# Altium footprint library balenaPerf pcblib.PcbLib: 5 footprints
Each footprint in its own frame and in the unit in brackets; x right, y up, seen from the top. Pads: shape width x height; smd on the part's side, far side on the other; paste and mask are expansions set on the pad; w line width, h text height; cw(c..) or ccw(c..) is an arc to the next point about the centre after c.
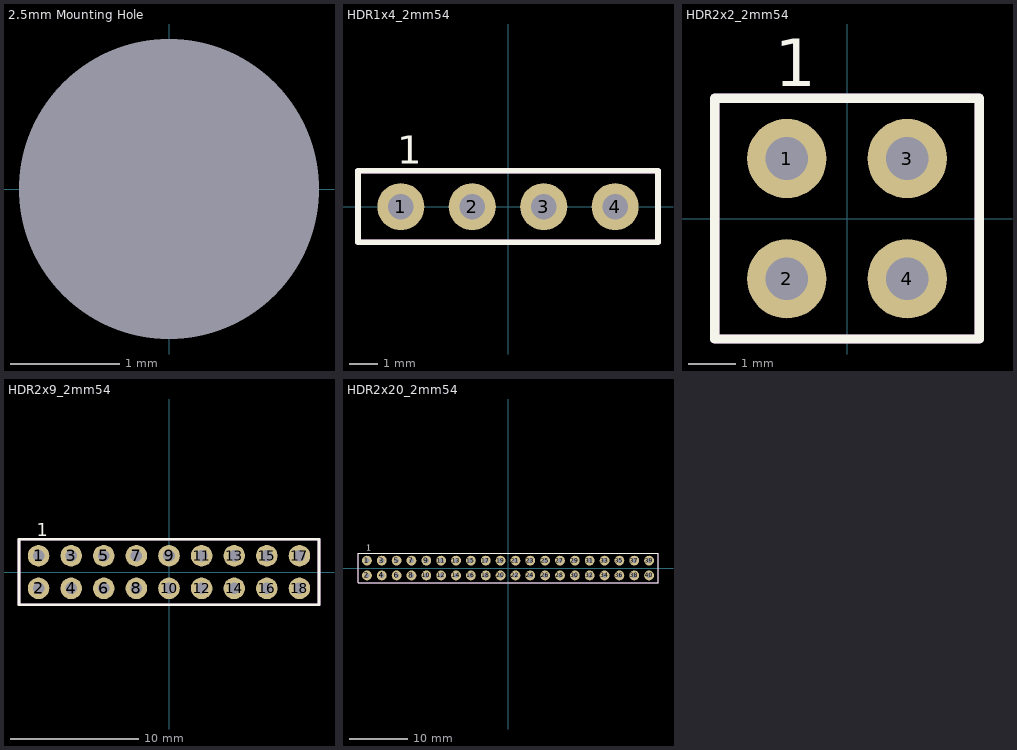
[diagram p0: the footprints below, top view; thin cyan lines are the x and y axes]

## 2.5mm Mounting Hole [mm]
pads (1):
  round 0 hole 2.75 unplated paste+0 mask+3.1: 1(0,0)

## HDR1x4_2mm54 [mil] "Female Header 1x4 pin 2.54mm spacing"
pads (4):
  round 66 hole 35.43: 1(-150,0) 2(-50,0) 3(50,0) 4(150,0)
Top Overlay:
  lines w7.87: -210,-50 -210,50 210,50 210,-50 -210,-50
  text "1" at -155,60 h39.37
Top Courtyard (M15):
  lines w7.87: -210,-50 210,-50 210,50 -210,50 -210,-50
  text ".Designator" at -125,-15 h39.37
3D body "PPPC041LFBN-RC.STEP": height 334.65, standoff -125.98, extent -209.84,-50 209.85,50

## HDR2x2_2mm54 [mil] "Female Header 2x2 pin 2.54mm spacing"
pads (4):
  round 66 hole 35.43: 1(-50,50) 2(-50,-50) 3(50,50) 4(50,-50)
Top Overlay:
  lines w7.87: -110,-100 110,-100 110,100 -110,100 -110,-100
  text "1" at -60,110 h39.37
Top Courtyard (M15):
  lines w7.87: -110,-100 -110,100 110,100 110,-100 -110,-100
  text ".Designator" at -65,-10 h39.37
3D body "PPPC022LFBN-RC.STEP": height 334.65, standoff -125.98, extent -109.84,-100 109.84,100

## HDR2x9_2mm54 [mil] "Female Header 2x9 pin 2.54mm spacing"
pads (18):
  round 66 hole 35.43: 1(-400,50) 2(-400,-50) 3(-300,50) 4(-300,-50) 5(-200,50) 6(-200,-50) 7(-100,50) 8(-100,-50) 9(0,50) 10(0,-50) 11(100,50) 12(100,-50) 13(200,50) 14(200,-50) 15(300,50) 16(300,-50) 17(400,50) 18(400,-50)
Top Overlay:
  lines w7.87: -460,-100 460,-100 460,100 -460,100 -460,-100
  text "1" at -405,110 h39.37
Top Courtyard (M15):
  lines w7.87: -460,-100 -460,100 460,100 460,-100 -460,-100
  text ".Designator" at -75,-10 h39.37
3D body "PPPC092LFBN-RC.STEP": height 334.65, standoff -125.98, extent -459.84,-100 459.84,100

## HDR2x20_2mm54 [mil] "Female Header 2x20 pin 2.54mm spacing"
pads (40):
  round 66 hole 35.43: 1(-950,50) 2(-950,-50) 3(-850,50) 4(-850,-50) 5(-750,50) 6(-750,-50) 7(-650,50) 8(-650,-50) 9(-550,50) 10(-550,-50) 11(-450,50) 12(-450,-50) 13(-350,50) 14(-350,-50) 15(-250,50) 16(-250,-50) 17(-150,50) 18(-150,-50) 19(-50,50) 20(-50,-50) 21(50,50) 22(50,-50) 23(150,50) 24(150,-50) 25(250,50) 26(250,-50) 27(350,50) 28(350,-50) 29(450,50) 30(450,-50) 31(550,50) 32(550,-50) 33(650,50) 34(650,-50) 35(750,50) 36(750,-50) 37(850,50) 38(850,-50) 39(950,50) 40(950,-50)
Top Overlay:
  lines w7.87: -1010,-100 -1010,100 1010,100 1010,-100 -1010,-100
  text "1" at -955,115 h39.37
Top Courtyard (M15):
  lines w7.87: -1010,-100 1010,-100 1010,100 -1010,100 -1010,-100
  text ".Designator" at -70,-10 h39.37
3D body "PPPC202LFBN-RC.STEP": height 334.65, standoff -125.98, extent -1009.84,-100 1009.84,100